# Altium schematic symbol library TPS65133.SchLib: 1 symbol
Pins are listed as number, name and electrical type; pins without a type are passive.

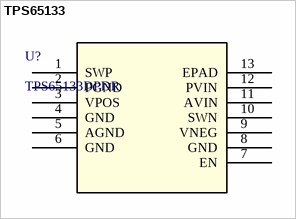
[diagram p0: symbol TPS65133]

## TPS65133
designator U?, comment TPS65133DPDR
Split-Rail Converter, ±5V, 250mA Dual Output Power Supply; Vendor: Texas Instruments; Built_By: EMA_Molly; SourceLibrary: TI_2019-05-24; Manufacturer_Part_Number: TPS65133DPDR; Copyright: Copyright (C) 2018 Accelerated Designs. All rights reserved; RefDes: RefDes; Type: DEV; ComponentLink1Description: Product Page; ComponentLink1URL: https://www.ti.com/product/TPS65133
footprint DPD12_TEX
pins: 1 SWP, 2 PGND, 3 VPOS, 4 GND, 5 AGND, 6 GND, 7 EN, 8 GND, 9 VNEG, 10 SWN, 11 AVIN, 12 PVIN, 13 EPAD